# Altium schematic symbol library MOSFET_P-CH_20V_SOT23.SchLib: 1 symbol
Pins are listed as number, name and electrical type; pins without a type are passive.

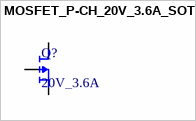
[diagram p0: symbol MOSFET_P-CH_20V_3.6A_SOT23]

## MOSFET_P-CH_20V_3.6A_SOT23
designator Q?, comment 20V_3.6A
Trans MOSFET P-CH 20V 3.6A 3-Pin SOT-23 T/R; Manufacturer: ON Semiconductor; Manufacturer Part Number: NTR3A052PZT1G; Rds On Max: 47mR; Input Capacitance: 1.243nF; Max Power Dissipation: 860mW; RoHS: Yes; Category: MOSFETs; Stock 1: 9236; Pricing 1: 1=0.44000, 10=0.37500, 25=0.35040, 100=0.28030, 500=0.22022, 1000=0.17017 (USD); Mount: Surface Mount; Case/Package: TO-236-3; Min Operating Temperature: -55°C; Max Operating Temperature: 150°C; Packaging: Cut Tape; Drain to Source Voltage (Vdss): 20V; Continuous Drain Current (ID): 3.6A; RoHS Compliant: Yes; ComponentLink1URL: http://www.onsemi.com/pub/Collateral/NTR3A052PZ-D.PDF?src-supplier=Digi-Key; ComponentLink1Description: http://www.onsemi.com/pub/Collateral/NTR3A052PZ-D.PDF?src-supplier=Digi-Key; Supplier 1: Digi-Key; Supplier Part Number 1: 31-DMP2045UQ-7CT-ND
footprint MOSFET_P-CH_20V_SOT23 (p-channel MOSFET 20V 3.6A SOT23)
pins: 1 G, 2 S, 3 D